# EAGLE library part RP?SLA* (library relay)
Special Load PCB Relay SCHRACK 1 pole 16 A, for high inrush currents, monostable Source: http://www.schrack.com/.. 5837.pdf
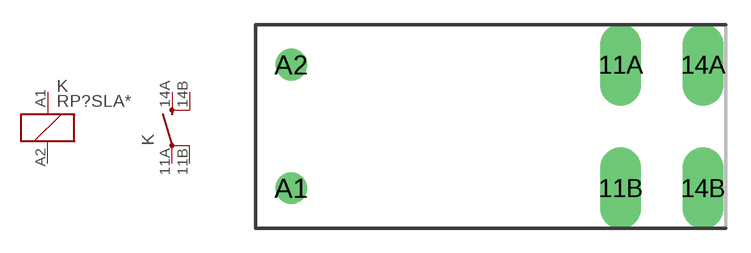
[diagram p128: symbol with the pads of RP-SLA; footprint RP-SLA]

Designator prefix K; gates 1=K 2=S-X2

## RP3SLA05 (MF: TYCO ELECTRONICS; MPN: RP3SLA05; OC_FARNELL: unknown; OC_NEWARK: 08H3553), RP3SLA12 (MF: TYCO ELECTRONICS; MPN: RP3SLA12; OC_FARNELL: unknown; OC_NEWARK: 08H3554), RP3SLA24 (MF: TYCO ELECTRONICS; MPN: RP3SLA24; OC_FARNELL: unknown; OC_NEWARK: 08H3555)  [RP-SLA]
11A  2:PA  pas
11B  2:PB  pas
14A  2:SA  pas
14B  2:SB  pas
A1  1:1  pas
A2  1:2  pas

## RP7SLA05 (OC_FARNELL: unknown; OC_NEWARK: unknown), RP7SLA12 (MF: TYCO ELECTRONICS; MPN: 6-1393231-4; OC_FARNELL: unknown; OC_NEWARK: 16H0754), RP7SLA24 (OC_FARNELL: unknown; OC_NEWARK: unknown)  [RP-SLA]
Pads as for RP-SLA

## Footprint RP-SLA (pad centres in mm)
Special Load PCB Relay SCHRACK 1 pole 16 A, for high inrush currents, monostable Source: http://www.schrack.com/.. 5837.pdf
drill 1.3 pad 2.5 long: 11A 7.56,3.78; 11B 7.56,-3.78; 14A 12.6,3.78; 14B 12.6,-3.78
drill 1.3: A1 -12.6,-3.78; A2 -12.6,3.78